# Altium schematic symbol library switch-dil.SCHLIB: 103 symbols
Pins are listed as number, name and electrical type; pins without a type are passive.

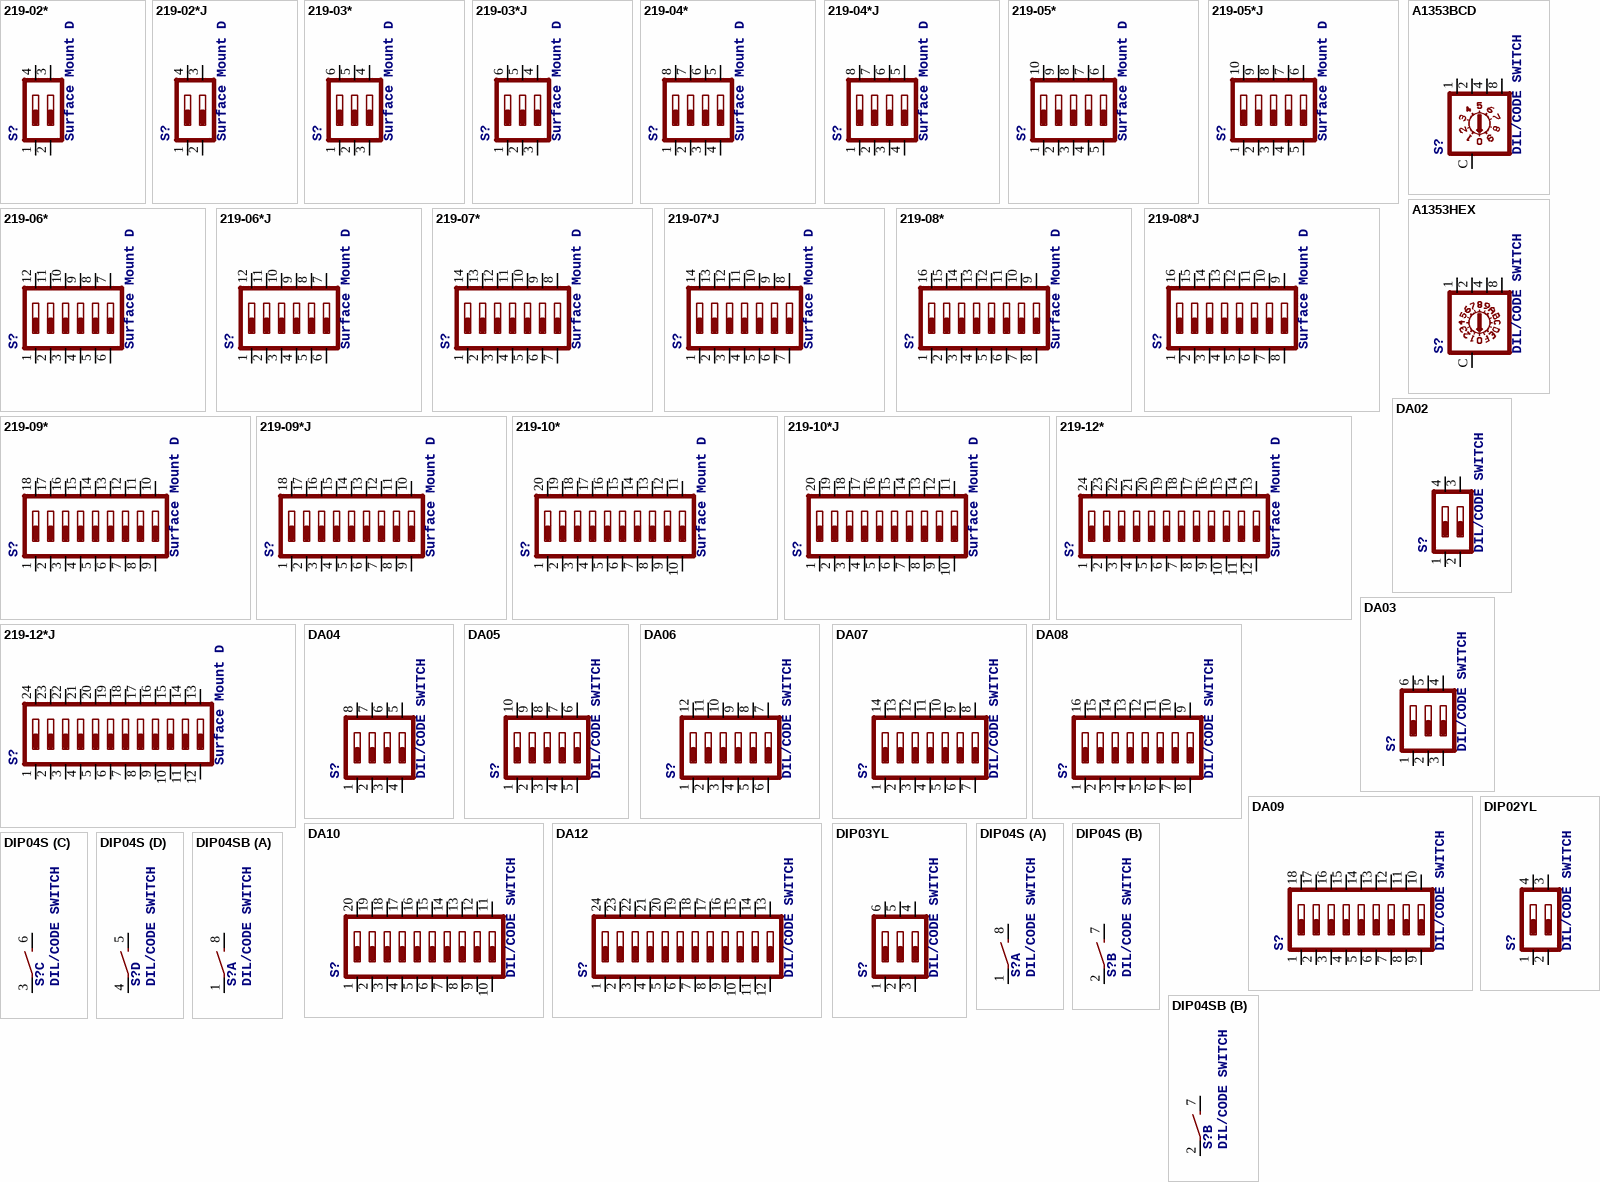
[diagram p0: symbols 219-02* to DIP04SB]

## 219-02*
designator S?, comment Surface Mount DIP Switch Series 219 SMT   CTS Electronic Components Sourc: www.ctscorp.com
OC_FARNELL: unknown; OC_NEWARK: unknown
footprint CTS-219-02
pins: 1, 2, 3, 4

## 219-02*J
designator S?, comment Surface Mount DIP Switch Series 219 SMT   CTS Electronic Components Sourc: www.ctscorp.com
OC_FARNELL: unknown; OC_NEWARK: unknown
footprint CTS-219-02J
pins: 1, 2, 3, 4

## 219-03*
designator S?, comment Surface Mount DIP Switch Series 219 SMT   CTS Electronic Components Sourc: www.ctscorp.com
OC_FARNELL: unknown; OC_NEWARK: unknown
footprint CTS-219-03
pins: 1, 2, 3, 4, 5, 6

## 219-03*J
designator S?, comment Surface Mount DIP Switch Series 219 SMT   CTS Electronic Components Sourc: www.ctscorp.com
OC_FARNELL: unknown; OC_NEWARK: unknown
footprint CTS-219-03J
pins: 1, 2, 3, 4, 5, 6

## 219-04*
designator S?, comment Surface Mount DIP Switch Series 219 SMT   CTS Electronic Components Sourc: www.ctscorp.com
OC_FARNELL: unknown; OC_NEWARK: unknown
footprint CTS-219-04
pins: 1, 2, 3, 4, 5, 6, 7, 8

## 219-04*J
designator S?, comment Surface Mount DIP Switch Series 219 SMT   CTS Electronic Components Sourc: www.ctscorp.com
OC_FARNELL: unknown; OC_NEWARK: unknown
footprint CTS-219-04J
pins: 1, 2, 3, 4, 5, 6, 7, 8

## 219-05*
designator S?, comment Surface Mount DIP Switch Series 219 SMT   CTS Electronic Components Sourc: www.ctscorp.com
OC_FARNELL: unknown; OC_NEWARK: unknown
footprint CTS-219-05
pins: 1, 2, 3, 4, 5, 6, 7, 8, 9, 10

## 219-05*J
designator S?, comment Surface Mount DIP Switch Series 219 SMT   CTS Electronic Components Sourc: www.ctscorp.com
OC_FARNELL: unknown; OC_NEWARK: unknown
footprint CTS-219-05J
pins: 1, 2, 3, 4, 5, 6, 7, 8, 9, 10

## 219-06*
designator S?, comment Surface Mount DIP Switch Series 219 SMT   CTS Electronic Components Sourc: www.ctscorp.com
OC_FARNELL: unknown; OC_NEWARK: unknown
footprint CTS-219-06
pins: 1, 2, 3, 4, 5, 6, 7, 8, 9, 10, 11, 12

## 219-06*J
designator S?, comment Surface Mount DIP Switch Series 219 SMT   CTS Electronic Components Sourc: www.ctscorp.com
OC_FARNELL: unknown; OC_NEWARK: unknown
footprint CTS-219-06J
pins: 1, 2, 3, 4, 5, 6, 7, 8, 9, 10, 11, 12

## 219-07*
designator S?, comment Surface Mount DIP Switch Series 219 SMT   CTS Electronic Components Sourc: www.ctscorp.com
OC_FARNELL: unknown; OC_NEWARK: unknown
footprint CTS-219-07
pins: 1, 2, 3, 4, 5, 6, 7, 8, 9, 10, 11, 12, 13, 14

## 219-07*J
designator S?, comment Surface Mount DIP Switch Series 219 SMT   CTS Electronic Components Sourc: www.ctscorp.com
OC_FARNELL: unknown; OC_NEWARK: unknown
footprint CTS-219-07J
pins: 1, 2, 3, 4, 5, 6, 7, 8, 9, 10, 11, 12, 13, 14

## 219-08*
designator S?, comment Surface Mount DIP Switch Series 219 SMT   CTS Electronic Components Sourc: www.ctscorp.com
OC_FARNELL: unknown; OC_NEWARK: unknown
footprint CTS-219-08
pins: 1, 2, 3, 4, 5, 6, 7, 8, 9, 10, 11, 12, 13, 14, 15, 16

## 219-08*J
designator S?, comment Surface Mount DIP Switch Series 219 SMT   CTS Electronic Components Sourc: www.ctscorp.com
OC_FARNELL: unknown; OC_NEWARK: unknown
footprint CTS-219-08J
pins: 1, 2, 3, 4, 5, 6, 7, 8, 9, 10, 11, 12, 13, 14, 15, 16

## 219-09*
designator S?, comment Surface Mount DIP Switch Series 219 SMT   CTS Electronic Components Sourc: www.ctscorp.com
OC_FARNELL: unknown; OC_NEWARK: unknown
footprint CTS-219-09
pins: 1, 2, 3, 4, 5, 6, 7, 8, 9, 10, 11, 12, 13, 14, 15, 16, 17, 18

## 219-09*J
designator S?, comment Surface Mount DIP Switch Series 219 SMT   CTS Electronic Components Sourc: www.ctscorp.com
OC_FARNELL: unknown; OC_NEWARK: unknown
footprint CTS-219-09J
pins: 1, 2, 3, 4, 5, 6, 7, 8, 9, 10, 11, 12, 13, 14, 15, 16, 17, 18

## 219-10*
designator S?, comment Surface Mount DIP Switch Series 219 SMT   CTS Electronic Components Sourc: www.ctscorp.com
MPN: 219-10PK; MF: SLI (CML/IDI); OC_FARNELL: unknown; OC_NEWARK: 19M0224
footprint CTS-219-10
pins: 1, 2, 3, 4, 5, 6, 7, 8, 9, 10, 11, 12, 13, 14, 15, 16, 17, 18, 19, 20

## 219-10*J
designator S?, comment Surface Mount DIP Switch Series 219 SMT   CTS Electronic Components Sourc: www.ctscorp.com
OC_FARNELL: unknown; OC_NEWARK: unknown
footprint CTS-219-10J
pins: 1, 2, 3, 4, 5, 6, 7, 8, 9, 10, 11, 12, 13, 14, 15, 16, 17, 18, 19, 20

## 219-12*
designator S?, comment Surface Mount DIP Switch Series 219 SMT   CTS Electronic Components Sourc: www.ctscorp.com
OC_FARNELL: unknown; OC_NEWARK: unknown
footprint CTS-219-12
pins: 1, 2, 3, 4, 5, 6, 7, 8, 9, 10, 11, 12, 13, 14, 15, 16, 17, 18, 19, 20, 21, 22, 23, 24

## 219-12*J
designator S?, comment Surface Mount DIP Switch Series 219 SMT   CTS Electronic Components Sourc: www.ctscorp.com
OC_FARNELL: unknown; OC_NEWARK: unknown
footprint CTS-219-12J
pins: 1, 2, 3, 4, 5, 6, 7, 8, 9, 10, 11, 12, 13, 14, 15, 16, 17, 18, 19, 20, 21, 22, 23, 24

## A1353BCD
designator S?, comment DIL/CODE SWITCH
OC_FARNELL: unknown; OC_NEWARK: unknown
footprint A1353BCD
pins: 1, 2, 4, 8, C

## A1353HEX
designator S?, comment DIL/CODE SWITCH
OC_FARNELL: unknown; OC_NEWARK: unknown
footprint A1353HEX
pins: 1, 2, 4, 8, C

## DA02
designator S?, comment DIL/CODE SWITCH
OC_FARNELL: 1255229; OC_NEWARK: unknown
footprint DA-02
pins: 1, 2, 3, 4

## DA03
designator S?, comment DIL/CODE SWITCH
MPN: MCDA03; OC_FARNELL: 1521999; OC_NEWARK: 74M2972
footprint DA-03
pins: 1, 2, 3, 4, 5, 6

## DA04
designator S?, comment DIL/CODE SWITCH
MPN: MCDA04; OC_FARNELL: 9471545; OC_NEWARK: 26M1090
footprint DA-04
pins: 1, 2, 3, 4, 5, 6, 7, 8

## DA05
designator S?, comment DIL/CODE SWITCH
MPN: MCDA05; OC_FARNELL: 1522001; OC_NEWARK: 74M2973
footprint DA-05
pins: 1, 2, 3, 4, 5, 6, 7, 8, 9, 10

## DA06
designator S?, comment DIL/CODE SWITCH
MPN: MCDA06; OC_FARNELL: 9471553; OC_NEWARK: 26M1091
footprint DA-06
pins: 1, 2, 3, 4, 5, 6, 7, 8, 9, 10, 11, 12

## DA07
designator S?, comment DIL/CODE SWITCH
MPN: MCDA07; OC_FARNELL: 1522002; OC_NEWARK: 74M2974
footprint DA-07
pins: 1, 2, 3, 4, 5, 6, 7, 8, 9, 10, 11, 12, 13, 14

## DA08
designator S?, comment DIL/CODE SWITCH
MPN: MCDA08; OC_FARNELL: 9471561; OC_NEWARK: 26M1092
footprint DA-08
pins: 1, 2, 3, 4, 5, 6, 7, 8, 9, 10, 11, 12, 13, 14, 15, 16

## DA09
designator S?, comment DIL/CODE SWITCH
MPN: MCDA09; OC_FARNELL: 1522003; OC_NEWARK: 74M2975
footprint DA-09
pins: 1, 2, 3, 4, 5, 6, 7, 8, 9, 10, 11, 12, 13, 14, 15, 16, 17, 18

## DA10
designator S?, comment DIL/CODE SWITCH
OC_FARNELL: unknown; OC_NEWARK: unknown
footprint DA-10
pins: 1, 2, 3, 4, 5, 6, 7, 8, 9, 10, 11, 12, 13, 14, 15, 16, 17, 18, 19, 20

## DA12
designator S?, comment DIL/CODE SWITCH
OC_FARNELL: 1255232; OC_NEWARK: unknown
footprint DA-12
pins: 1, 2, 3, 4, 5, 6, 7, 8, 9, 10, 11, 12, 13, 14, 15, 16, 17, 18, 19, 20, 21, 22, 23, 24

## DIP02YL
designator S?, comment DIL/CODE SWITCH
OC_FARNELL: unknown; OC_NEWARK: unknown
footprint DIP02YL
pins: 1, 2, 3, 4

## DIP03YL
designator S?, comment DIL/CODE SWITCH
OC_FARNELL: unknown; OC_NEWARK: unknown
footprint DIP03YL
pins: 1, 2, 3, 4, 5, 6

## DIP04S
designator S?, comment DIL/CODE SWITCH
OC_FARNELL: unknown; OC_NEWARK: unknown
footprint DIP04S
part A pins: 1, 8 2
part B pins: 2 1, 7 2
part C pins: 3 1, 6 2
part D pins: 4 1, 5 2

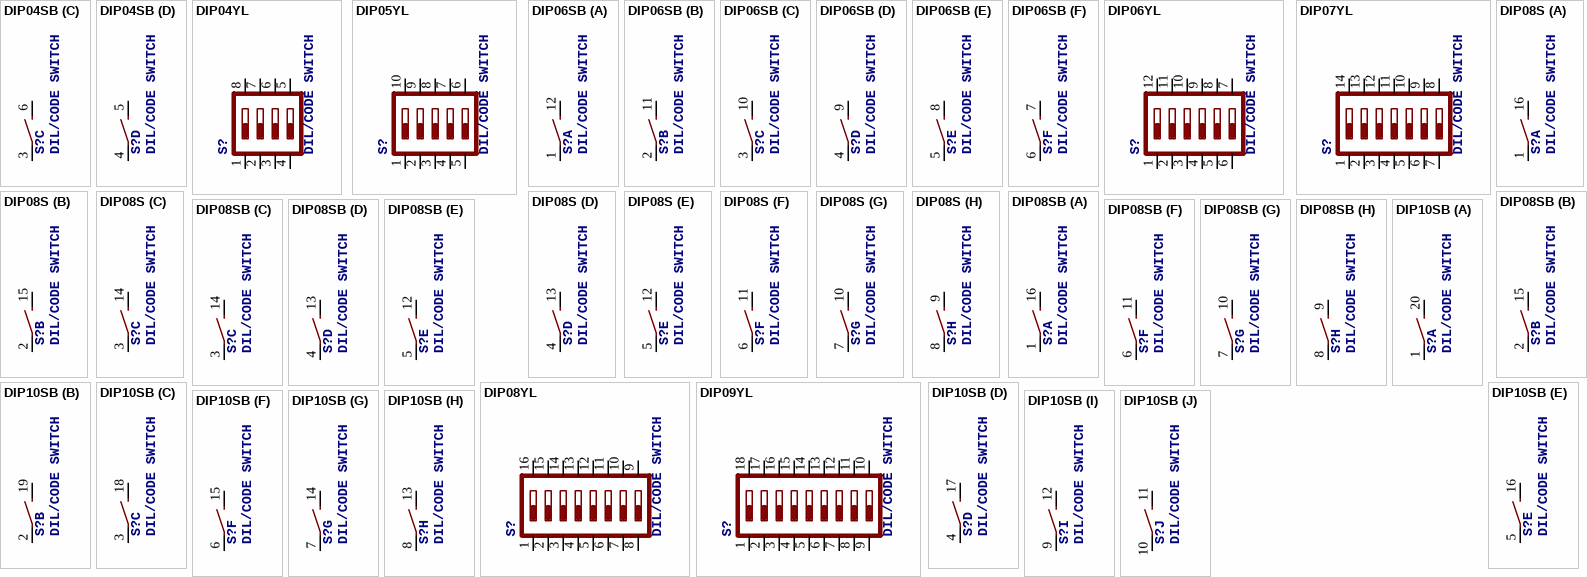
[diagram p1: symbols DIP04SB to DIP10SB]

## DIP04SB
designator S?, comment DIL/CODE SWITCH
OC_FARNELL: unknown; OC_NEWARK: unknown
footprint DIP04SB
part A pins: 1, 8 2
part B pins: 2 1, 7 2
part C pins: 3 1, 6 2
part D pins: 4 1, 5 2

## DIP04YL
designator S?, comment DIL/CODE SWITCH
OC_FARNELL: unknown; OC_NEWARK: unknown
footprint DIP04YL
pins: 1, 2, 3, 4, 5, 6, 7, 8

## DIP05YL
designator S?, comment DIL/CODE SWITCH
OC_FARNELL: unknown; OC_NEWARK: unknown
footprint DIP05YL
pins: 1, 2, 3, 4, 5, 6, 7, 8, 9, 10

## DIP06SB
designator S?, comment DIL/CODE SWITCH
OC_FARNELL: unknown; OC_NEWARK: unknown
footprint DIP06SB
part A pins: 1, 12 2
part B pins: 2 1, 11 2
part C pins: 3 1, 10 2
part D pins: 4 1, 9 2
part E pins: 5 1, 8 2
part F pins: 6 1, 7 2

## DIP06YL
designator S?, comment DIL/CODE SWITCH
OC_FARNELL: unknown; OC_NEWARK: unknown
footprint DIP06YL
pins: 1, 2, 3, 4, 5, 6, 7, 8, 9, 10, 11, 12

## DIP07YL
designator S?, comment DIL/CODE SWITCH
OC_FARNELL: unknown; OC_NEWARK: unknown
footprint DIP07YL
pins: 1, 2, 3, 4, 5, 6, 7, 8, 9, 10, 11, 12, 13, 14

## DIP08S
designator S?, comment DIL/CODE SWITCH
OC_FARNELL: unknown; OC_NEWARK: unknown
footprint DIP08S
part A pins: 1, 16 2
part B pins: 2 1, 15 2
part C pins: 3 1, 14 2
part D pins: 4 1, 13 2
part E pins: 5 1, 12 2
part F pins: 6 1, 11 2
part G pins: 7 1, 10 2
part H pins: 8 1, 9 2

## DIP08SB
designator S?, comment DIL/CODE SWITCH
OC_FARNELL: unknown; OC_NEWARK: unknown
footprint DIP08SB
part A pins: 1, 16 2
part B pins: 2 1, 15 2
part C pins: 3 1, 14 2
part D pins: 4 1, 13 2
part E pins: 5 1, 12 2
part F pins: 6 1, 11 2
part G pins: 7 1, 10 2
part H pins: 8 1, 9 2

## DIP08YL
designator S?, comment DIL/CODE SWITCH
OC_FARNELL: unknown; OC_NEWARK: unknown
footprint DIP08YL
pins: 1, 2, 3, 4, 5, 6, 7, 8, 9, 10, 11, 12, 13, 14, 15, 16

## DIP09YL
designator S?, comment DIL/CODE SWITCH
OC_FARNELL: unknown; OC_NEWARK: unknown
footprint DIP09YL
pins: 1, 2, 3, 4, 5, 6, 7, 8, 9, 10, 11, 12, 13, 14, 15, 16, 17, 18

## DIP10SB
designator S?, comment DIL/CODE SWITCH
OC_FARNELL: unknown; OC_NEWARK: unknown
footprint DIP10SB
part A pins: 1, 20 2
part B pins: 2 1, 19 2
part C pins: 3 1, 18 2
part D pins: 4 1, 17 2
part E pins: 5 1, 16 2
part F pins: 6 1, 15 2
part G pins: 7 1, 14 2
part H pins: 8 1, 13 2
part I pins: 9 1, 12 2
part J pins: 10 1, 11 2

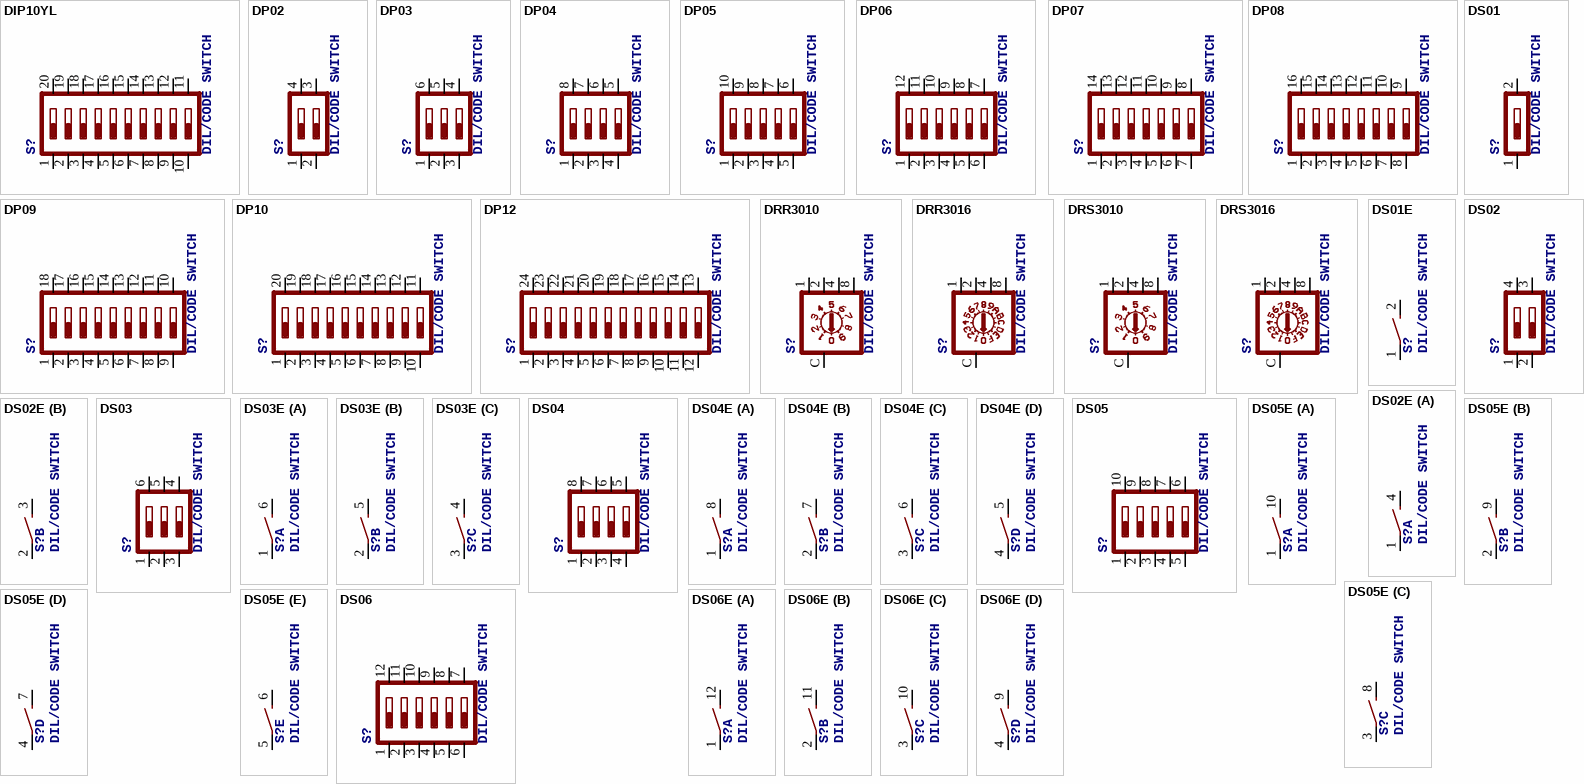
[diagram p2: symbols DIP10YL to DS06E]

## DIP10YL
designator S?, comment DIL/CODE SWITCH
OC_FARNELL: unknown; OC_NEWARK: unknown
footprint DIP10YL
pins: 1, 2, 3, 4, 5, 6, 7, 8, 9, 10, 11, 12, 13, 14, 15, 16, 17, 18, 19, 20

## DP02
designator S?, comment DIL/CODE SWITCH
MPN: MCDP02; OC_FARNELL: 1255233; OC_NEWARK: 26M1095
footprint DP-02
pins: 1, 2, 3, 4

## DP03
designator S?, comment DIL/CODE SWITCH
MPN: MCDP03; OC_FARNELL: 1522004; OC_NEWARK: 74M2976
footprint DP-03
pins: 1, 2, 3, 4, 5, 6

## DP04
designator S?, comment DIL/CODE SWITCH
MPN: DP04; OC_FARNELL: 9471600; OC_NEWARK: 73J0027
footprint DP-04
pins: 1, 2, 3, 4, 5, 6, 7, 8

## DP05
designator S?, comment DIL/CODE SWITCH
MPN: DP05; OC_FARNELL: 1522005; OC_NEWARK: 73J0029
footprint DP-05
pins: 1, 2, 3, 4, 5, 6, 7, 8, 9, 10

## DP06
designator S?, comment DIL/CODE SWITCH
MPN: MCDP06; OC_FARNELL: 9471618; OC_NEWARK: 26M1097
footprint DP-06
pins: 1, 2, 3, 4, 5, 6, 7, 8, 9, 10, 11, 12

## DP07
designator S?, comment DIL/CODE SWITCH
MPN: MCDP07; OC_FARNELL: 1522006; OC_NEWARK: 74M2978
footprint DP-07
pins: 1, 2, 3, 4, 5, 6, 7, 8, 9, 10, 11, 12, 13, 14

## DP08
designator S?, comment DIL/CODE SWITCH
MPN: DP08; OC_FARNELL: 9471626; OC_NEWARK: 73J0035
footprint DP-08
pins: 1, 2, 3, 4, 5, 6, 7, 8, 9, 10, 11, 12, 13, 14, 15, 16

## DP09
designator S?, comment DIL/CODE SWITCH
MPN: MCDP09; OC_FARNELL: 1522007; OC_NEWARK: 74M2979
footprint DP-09
pins: 1, 2, 3, 4, 5, 6, 7, 8, 9, 10, 11, 12, 13, 14, 15, 16, 17, 18

## DP10
designator S?, comment DIL/CODE SWITCH
OC_FARNELL: 1255234; OC_NEWARK: unknown
footprint DP-10
pins: 1, 2, 3, 4, 5, 6, 7, 8, 9, 10, 11, 12, 13, 14, 15, 16, 17, 18, 19, 20

## DP12
designator S?, comment DIL/CODE SWITCH
OC_FARNELL: unknown; OC_NEWARK: unknown
footprint DP-12
pins: 1, 2, 3, 4, 5, 6, 7, 8, 9, 10, 11, 12, 13, 14, 15, 16, 17, 18, 19, 20, 21, 22, 23, 24

## DRR3010
designator S?, comment DIL/CODE SWITCH
MPN: DRR3010; OC_FARNELL: 1190427; OC_NEWARK: 01M7365
footprint DRR3010
pins: 1, 2, 4, 8, C

## DRR3016
designator S?, comment DIL/CODE SWITCH
MPN: DRR3016; OC_FARNELL: 9810439; OC_NEWARK: 96K8699
footprint DRR3010
pins: 1, 2, 4, 8, C

## DRS3010
designator S?, comment DIL/CODE SWITCH
MPN: DRS3010; OC_FARNELL: 1190426; OC_NEWARK: 01M7366
footprint DRR3010
pins: 1, 2, 4, 8, C

## DRS3016
designator S?, comment DIL/CODE SWITCH
MPN: DRS3016; OC_FARNELL: 1190425; OC_NEWARK: 01M7367
footprint DRS3016
pins: 1, 2, 4, 8, C

## DS01
designator S?, comment DIL/CODE SWITCH
OC_FARNELL: unknown; OC_NEWARK: unknown
footprint DS-01
pins: 1, 2

## DS01E
designator S?, comment DIL/CODE SWITCH
OC_FARNELL: unknown; OC_NEWARK: unknown
footprint DS-01
pins: 1, 2

## DS02
designator S?, comment DIL/CODE SWITCH
OC_FARNELL: 9472126; OC_NEWARK: unknown
footprint DS-02
pins: 1, 2, 3, 4

## DS02E
designator S?, comment DIL/CODE SWITCH
OC_FARNELL: 9472126; OC_NEWARK: unknown
footprint DS-02
part A pins: 1, 4 2
part B pins: 2 1, 3 2

## DS03
designator S?, comment DIL/CODE SWITCH
OC_FARNELL: 1255223; OC_NEWARK: unknown
footprint DS-03
pins: 1, 2, 3, 4, 5, 6

## DS03E
designator S?, comment DIL/CODE SWITCH
OC_FARNELL: 1255223; OC_NEWARK: unknown
footprint DS-03
part A pins: 1, 6 2
part B pins: 2 1, 5 2
part C pins: 3 1, 4 2

## DS04
designator S?, comment DIL/CODE SWITCH
OC_FARNELL: 9471570; OC_NEWARK: unknown
footprint DS-04
pins: 1, 2, 3, 4, 5, 6, 7, 8

## DS04E
designator S?, comment DIL/CODE SWITCH
OC_FARNELL: unknown; OC_NEWARK: unknown
footprint DS-04
part A pins: 1, 8 2
part B pins: 2 1, 7 2
part C pins: 3 1, 6 2
part D pins: 4 1, 5 2

## DS05
designator S?, comment DIL/CODE SWITCH
OC_FARNELL: 1255225; OC_NEWARK: unknown
footprint DS-05
pins: 1, 2, 3, 4, 5, 6, 7, 8, 9, 10

## DS05E
designator S?, comment DIL/CODE SWITCH
OC_FARNELL: unknown; OC_NEWARK: unknown
footprint DS-05
part A pins: 1, 10 2
part B pins: 2 1, 9 2
part C pins: 3 1, 8 2
part D pins: 4 1, 7 2
part E pins: 5 1, 6 2

## DS06
designator S?, comment DIL/CODE SWITCH
MPN: MCDS06; OC_FARNELL: 9471588; OC_NEWARK: 26M1105
footprint DS-06
pins: 1, 2, 3, 4, 5, 6, 7, 8, 9, 10, 11, 12

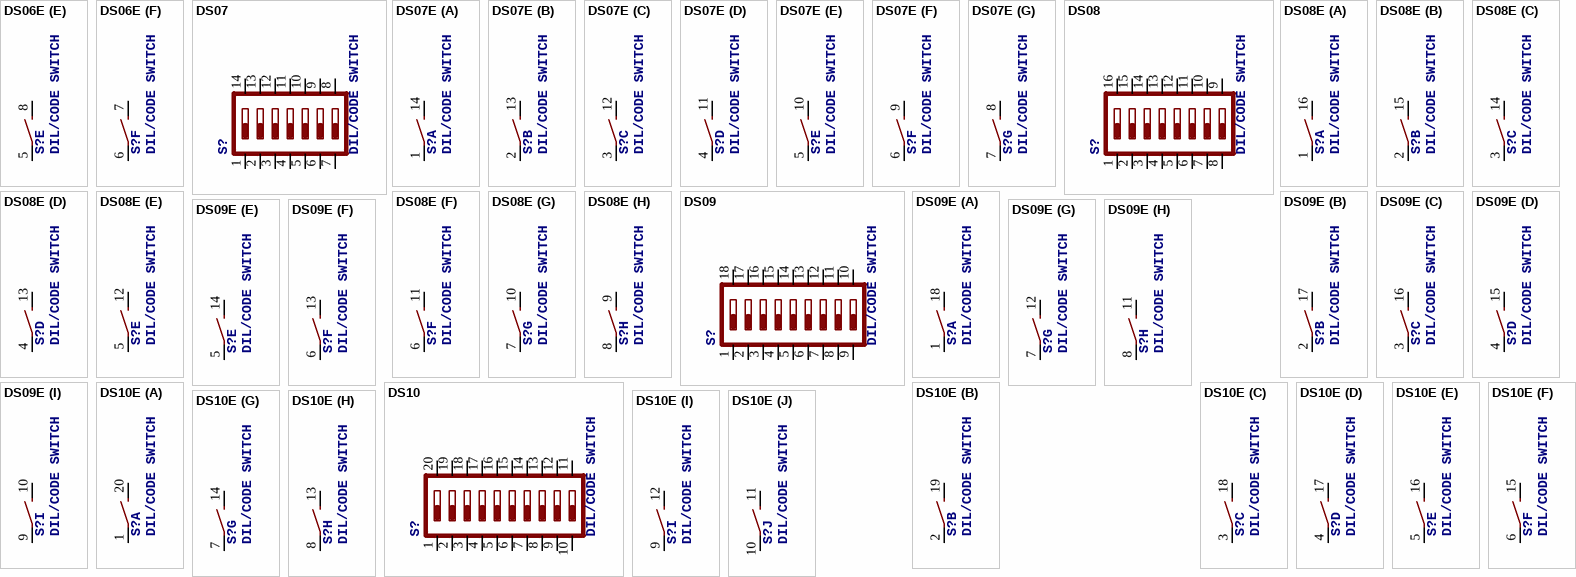
[diagram p3: symbols DS06E to DS10E]

## DS06E
designator S?, comment DIL/CODE SWITCH
MPN: MCDS06; OC_FARNELL: 9471588; OC_NEWARK: 26M1105
footprint DS-06
part A pins: 1, 12 2
part B pins: 2 1, 11 2
part C pins: 3 1, 10 2
part D pins: 4 1, 9 2
part E pins: 5 1, 8 2
part F pins: 6 1, 7 2

## DS07
designator S?, comment DIL/CODE SWITCH
MPN: MCDS07; OC_FARNELL: 1255226; OC_NEWARK: 26M1106
footprint DS-07
pins: 1, 2, 3, 4, 5, 6, 7, 8, 9, 10, 11, 12, 13, 14

## DS07E
designator S?, comment DIL/CODE SWITCH
MPN: MCDS07; OC_FARNELL: 1255226; OC_NEWARK: 26M1106
footprint DS-07
part A pins: 1, 14 2
part B pins: 2 1, 13 2
part C pins: 3 1, 12 2
part D pins: 4 1, 11 2
part E pins: 5 1, 10 2
part F pins: 6 1, 9 2
part G pins: 7 1, 8 2

## DS08
designator S?, comment DIL/CODE SWITCH
MPN: DS08; OC_FARNELL: unknown; OC_NEWARK: 73J0071
footprint DS-08
pins: 1, 2, 3, 4, 5, 6, 7, 8, 9, 10, 11, 12, 13, 14, 15, 16

## DS08E
designator S?, comment DIL/CODE SWITCH
MPN: DS08; OC_FARNELL: unknown; OC_NEWARK: 73J0071
footprint DS-08
part A pins: 1, 16 2
part B pins: 2 1, 15 2
part C pins: 3 1, 14 2
part D pins: 4 1, 13 2
part E pins: 5 1, 12 2
part F pins: 6 1, 11 2
part G pins: 7 1, 10 2
part H pins: 8 1, 9 2

## DS09
designator S?, comment DIL/CODE SWITCH
MPN: MCDS09; OC_FARNELL: 1255227; OC_NEWARK: 26M1107
footprint DS-09
pins: 1, 2, 3, 4, 5, 6, 7, 8, 9, 10, 11, 12, 13, 14, 15, 16, 17, 18

## DS09E
designator S?, comment DIL/CODE SWITCH
MPN: MCDS09; OC_FARNELL: 1255227; OC_NEWARK: 26M1107
footprint DS-09
part A pins: 1, 18 2
part B pins: 2 1, 17 2
part C pins: 3 1, 16 2
part D pins: 4 1, 15 2
part E pins: 5 1, 14 2
part F pins: 6 1, 13 2
part G pins: 7 1, 12 2
part H pins: 8 1, 11 2
part I pins: 9 1, 10 2

## DS10
designator S?, comment DIL/CODE SWITCH
OC_FARNELL: unknown; OC_NEWARK: unknown
footprint DS-10
pins: 1, 2, 3, 4, 5, 6, 7, 8, 9, 10, 11, 12, 13, 14, 15, 16, 17, 18, 19, 20

## DS10E
designator S?, comment DIL/CODE SWITCH
OC_FARNELL: unknown; OC_NEWARK: unknown
footprint DS-10
part A pins: 1, 20 2
part B pins: 2 1, 19 2
part C pins: 3 1, 18 2
part D pins: 4 1, 17 2
part E pins: 5 1, 16 2
part F pins: 6 1, 15 2
part G pins: 7 1, 14 2
part H pins: 8 1, 13 2
part I pins: 9 1, 12 2
part J pins: 10 1, 11 2

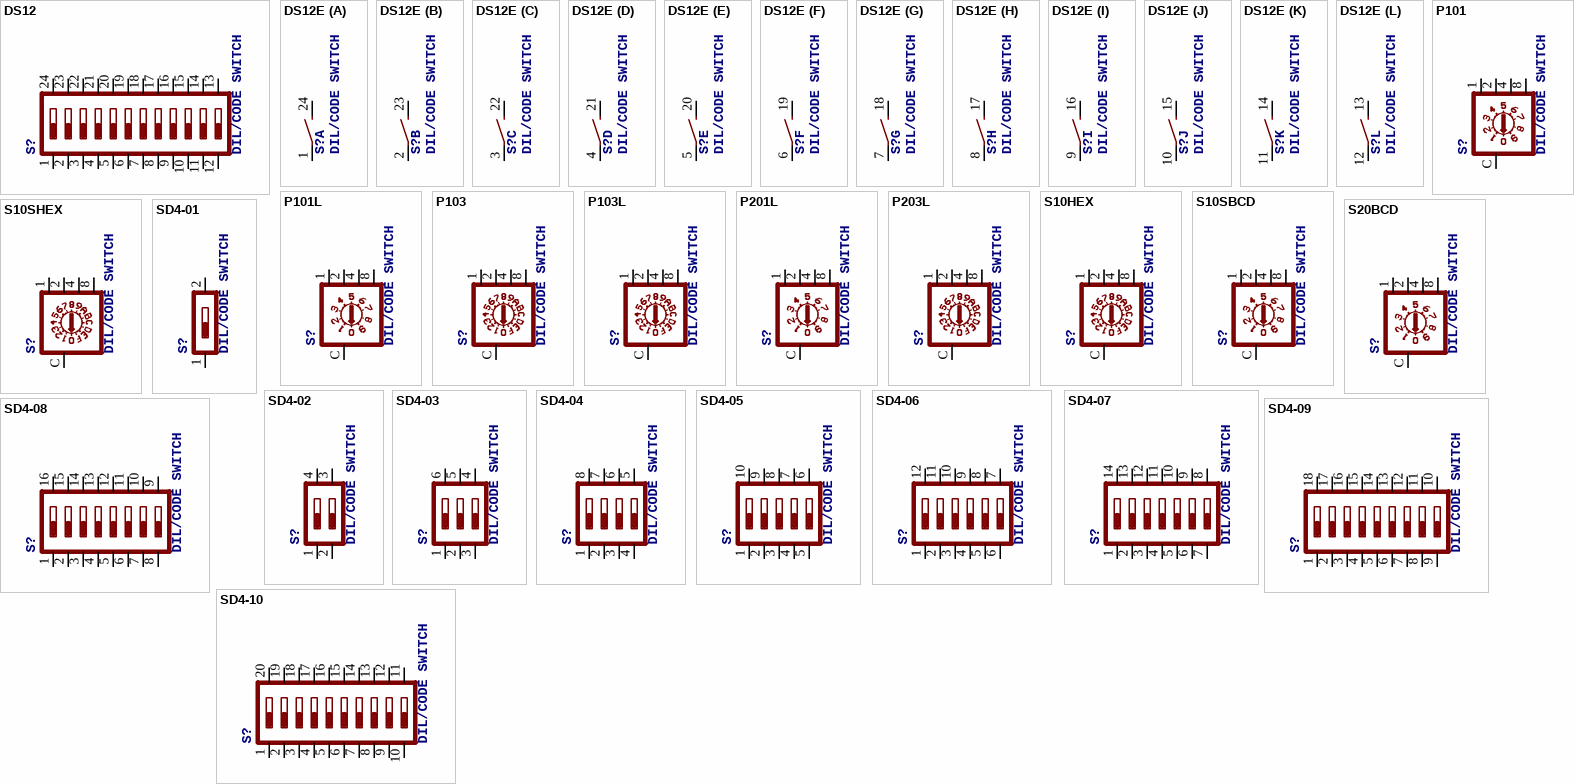
[diagram p4: symbols DS12 to SD4-10]

## DS12
designator S?, comment DIL/CODE SWITCH
OC_FARNELL: unknown; OC_NEWARK: unknown
footprint DS-12
pins: 1, 2, 3, 4, 5, 6, 7, 8, 9, 10, 11, 12, 13, 14, 15, 16, 17, 18, 19, 20, 21, 22, 23, 24

## DS12E
designator S?, comment DIL/CODE SWITCH
OC_FARNELL: unknown; OC_NEWARK: unknown
footprint DS-12
part A pins: 1, 24 2
part B pins: 2 1, 23 2
part C pins: 3 1, 22 2
part D pins: 4 1, 21 2
part E pins: 5 1, 20 2
part F pins: 6 1, 19 2
part G pins: 7 1, 18 2
part H pins: 8 1, 17 2
part I pins: 9 1, 16 2
part J pins: 10 1, 15 2
part K pins: 11 1, 14 2
part L pins: 12 1, 13 2

## P101
designator S?, comment DIL/CODE SWITCH
OC_FARNELL: unknown; OC_NEWARK: unknown
footprint P101
pins: 1, 2, 4, 8, C

## P101L
designator S?, comment DIL/CODE SWITCH
OC_FARNELL: unknown; OC_NEWARK: unknown
footprint P101L
pins: 1, 2, 4, 8, C

## P103
designator S?, comment DIL/CODE SWITCH
OC_FARNELL: unknown; OC_NEWARK: unknown
footprint P103
pins: 1, 2, 4, 8, C

## P103L
designator S?, comment DIL/CODE SWITCH
OC_FARNELL: unknown; OC_NEWARK: unknown
footprint P101L
pins: 1, 2, 4, 8, C

## P201L
designator S?, comment DIL/CODE SWITCH
OC_FARNELL: unknown; OC_NEWARK: unknown
footprint P201L
pins: 1, 2, 4, 8, C

## P203L
designator S?, comment DIL/CODE SWITCH
OC_FARNELL: unknown; OC_NEWARK: unknown
footprint P201L
pins: 1, 2, 4, 8, C

## S10HEX
designator S?, comment DIL/CODE SWITCH
OC_FARNELL: unknown; OC_NEWARK: unknown
footprint S10HEX
pins: 1, 2, 4, 8, C

## S10SBCD
designator S?, comment DIL/CODE SWITCH
OC_FARNELL: unknown; OC_NEWARK: unknown
footprint S10S
pins: 1, 2, 4, 8, C

## S10SHEX
designator S?, comment DIL/CODE SWITCH
OC_FARNELL: unknown; OC_NEWARK: unknown
footprint S10S
pins: 1, 2, 4, 8, C

## S20BCD
designator S?, comment DIL/CODE SWITCH
OC_FARNELL: unknown; OC_NEWARK: unknown
footprint S20BCD
pins: 1, 2, 4, 8, C

## SD4-01
designator S?, comment DIL/CODE SWITCH
OC_FARNELL: unknown; OC_NEWARK: unknown
footprint SD4-01
pins: 1, 2

## SD4-02
designator S?, comment DIL/CODE SWITCH
OC_FARNELL: unknown; OC_NEWARK: unknown
footprint SD4-02
pins: 1, 2, 3, 4

## SD4-03
designator S?, comment DIL/CODE SWITCH
OC_FARNELL: unknown; OC_NEWARK: unknown
footprint SD4-03
pins: 1, 2, 3, 4, 5, 6

## SD4-04
designator S?, comment DIL/CODE SWITCH
OC_FARNELL: unknown; OC_NEWARK: unknown
footprint SD4-04
pins: 1, 2, 3, 4, 5, 6, 7, 8

## SD4-05
designator S?, comment DIL/CODE SWITCH
OC_FARNELL: unknown; OC_NEWARK: unknown
footprint SD4-05
pins: 1, 2, 3, 4, 5, 6, 7, 8, 9, 10

## SD4-06
designator S?, comment DIL/CODE SWITCH
OC_FARNELL: unknown; OC_NEWARK: unknown
footprint SD4-06
pins: 1, 2, 3, 4, 5, 6, 7, 8, 9, 10, 11, 12

## SD4-07
designator S?, comment DIL/CODE SWITCH
OC_FARNELL: unknown; OC_NEWARK: unknown
footprint SD4-07
pins: 1, 2, 3, 4, 5, 6, 7, 8, 9, 10, 11, 12, 13, 14

## SD4-08
designator S?, comment DIL/CODE SWITCH
OC_FARNELL: unknown; OC_NEWARK: unknown
footprint SD4-08
pins: 1, 2, 3, 4, 5, 6, 7, 8, 9, 10, 11, 12, 13, 14, 15, 16

## SD4-09
designator S?, comment DIL/CODE SWITCH
OC_FARNELL: unknown; OC_NEWARK: unknown
footprint SD4-09
pins: 1, 2, 3, 4, 5, 6, 7, 8, 9, 10, 11, 12, 13, 14, 15, 16, 17, 18

## SD4-10
designator S?, comment DIL/CODE SWITCH
OC_FARNELL: unknown; OC_NEWARK: unknown
footprint SD4-10
pins: 1, 2, 3, 4, 5, 6, 7, 8, 9, 10, 11, 12, 13, 14, 15, 16, 17, 18, 19, 20